# Altium footprint library Switch.PcbLib: 2 footprints
Each footprint in its own frame and in the unit in brackets; x right, y up, seen from the top. Pads: shape width x height; smd on the part's side, far side on the other; paste and mask are expansions set on the pad; w line width, h text height; cw(c..) or ccw(c..) is an arc to the next point about the centre after c.
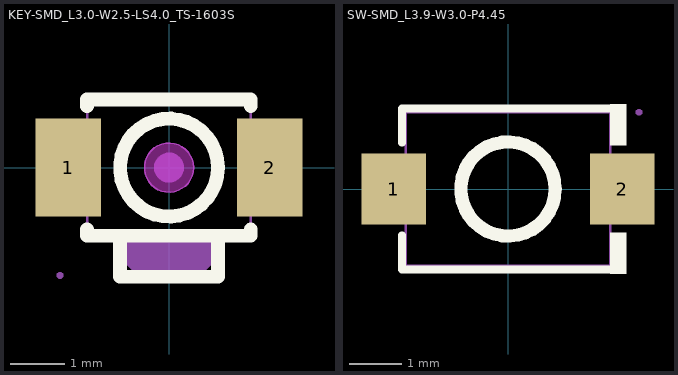
[diagram p0: the footprints below, top view; thin cyan lines are the x and y axes]

## KEY-SMD_L3.0-W2.5-LS4.0_TS-1603S [mm]
pads (2):
  rect 1.2x1.8 smd: 1(-1.85,0) 2(1.85,0)
Top Overlay:
  circle w0.254: c0,0 r0.898
  lines w0.254: -1.5,-1.131 -1.5,-1.25 1.5,-1.25 1.5,-1.131 ; -1.5,1.131 -1.5,1.25 1.5,1.25 1.5,1.131 ; -0.9,-1.25 -0.9,-2 0.9,-2 0.9,-1.25
Keep-Out Layer:
  board cut-out: 0.45,0 0.45,-0.09 0.381,-0.255 0.255,-0.382 0.089,-0.45 -0.09,-0.45 -0.255,-0.382 -0.382,-0.255 -0.45,-0.09 -0.45,0 -0.45,0.09 -0.382,0.255 -0.255,0.382 -0.09,0.45 0.089,0.45 0.255,0.382 0.381,0.255 0.45,0.09 0.45,0
Keep-Out Layer:
  circle w0.025: c0,0 r0.45
  region: 0.45,0 0.45,-0.09 0.381,-0.255 0.255,-0.382 0.089,-0.45 -0.09,-0.45 -0.255,-0.382 -0.382,-0.255 -0.45,-0.09 -0.45,0 -0.45,0.09 -0.382,0.255 -0.255,0.382 -0.09,0.45 0.089,0.45 0.255,0.382 0.381,0.255 0.45,0.09 0.45,0
Mechanical 1:
  circle w0.025: c0,0 r0.45
Mechanical 6:
  circle w0.275: c0,0 r0.138
  region: -0.85,-1.275 -0.85,-1.675 -0.55,-1.975 0.55,-1.975 0.85,-1.675 0.85,-1.276 0.849,-1.275
Mechanical 15:
  region: -1.94,-1.975 -1.94,-2 -1.975,-2.035 -2.025,-2.035 -2.06,-2 -2.06,-1.975 -2.06,-1.95 -2.025,-1.915 -1.975,-1.915 -1.94,-1.95 -1.94,-1.975
  region: -1.5,0.7 -1.5,-0.7 -2,-0.7 -2,0.7
  region: 2,0.7 2,-0.7 1.5,-0.7 1.5,0.7
  lines w0.051: -2,-0.725 -1.5,-0.725 -1.5,-1.275 -0.85,-1.275 -0.85,-1.675 -0.55,-1.975 0.55,-1.975 0.85,-1.675 0.85,-1.275 1.5,-1.275 1.5,-0.725 2,-0.725 2,0.685 1.5,0.685 1.5,1.225 -1.5,1.225 -1.5,0.675 -2,0.675 -2,-0.725
3D body "SWITCH_xiaobeibei.STEP": height 1.93, standoff -0.27, extent -2.436,-2.224 2.464,1.61

## SW-SMD_L3.9-W3.0-P4.45 [mm]
pads (2):
  rect 1.23x1.36 smd: 1(-2.185,0) 2(2.185,0)
Top Overlay:
  circle w0.254: c0,0 r0.9
  region: 1.95,-1.617 1.95,-0.832 2.255,-0.832 2.255,-1.617
  region: 1.95,1.617 1.95,0.832 2.255,0.832 2.255,1.617
  lines w0.152: -2.026,-0.883 -2.026,-1.541 2.026,-1.541 ; -2.026,0.883 -2.026,1.541 2.026,1.541
Mechanical 15:
  region: 2.56,1.465 2.56,1.44 2.525,1.405 2.475,1.405 2.44,1.44 2.44,1.465 2.44,1.49 2.475,1.525 2.525,1.525 2.56,1.49 2.56,1.465
  region: 2.5,0.65 2.5,-0.65 1.6,-0.65 1.6,0.65
  region: -2.5,0.65 -2.5,-0.65 -1.6,-0.65 -1.6,0.65
  lines w0.051: -1.95,-1.465 1.95,-1.465 1.95,1.465 -1.95,1.465 -1.95,-1.465
3D body "L-KLS7-TS3403-2.0-250-T_button.step": height 1.82, standoff -0.02, extent -2.15,-1.45 2.15,1.45